# EAGLE library part ARDUINO_PRO_MINI (library Halley)
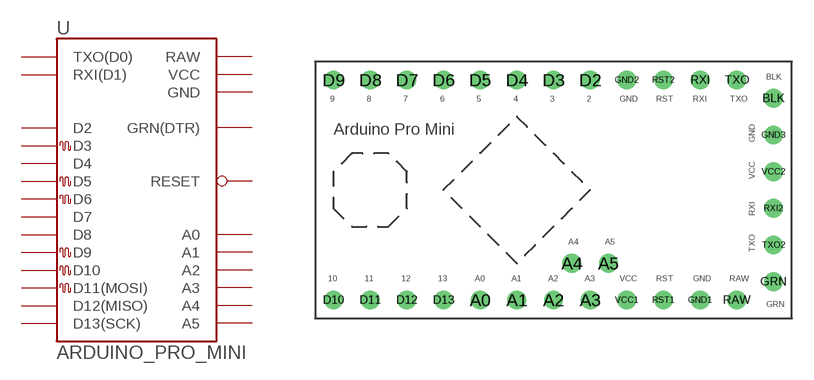
[diagram p1: symbol with the pads of ARDUINO_PRO_MINI; footprint ARDUINO_PRO_MINI]

Designator prefix -

## ARDUINO_PRO_MINI  [ARDUINO_PRO_MINI]
A0  A0
A1  A1
A2  A2
A3  A3
A4  A4
A5  A5
D2  D2
D3  D3
D4  D4
D5  D5
D6  D6
D7  D7
D8  D8
D9  D9
D10  D10
D11  D11(MOSI)
D12  D12(MISO)
D13  D13(SCK)
GND1  GND
GRN  GRN(DTR)
RAW  RAW
RST1  RESET
RXI  RXI(D1)
TXO  TXO(D0)
VCC1  VCC

## Footprint ARDUINO_PRO_MINI (pad centres in mm)
SparkFun Arduino Pro Mini outline
drill 0.8 round: A0 -6.35,-7.62; A1 -3.81,-7.62; A2 -1.27,-7.62; A3 1.27,-7.62; A4 0,-5.08; A5 2.54,-5.08; BLK 13.97,6.35; D2 1.27,7.62; D3 -1.27,7.62; D4 -3.81,7.62; D5 -6.35,7.62; D6 -8.89,7.62; D7 -11.43,7.62; D8 -13.97,7.62; D9 -16.51,7.62; D10 -16.51,-7.62; D11 -13.97,-7.62; D12 -11.43,-7.62; D13 -8.89,-7.62; GND1 8.89,-7.62; GND2 3.81,7.62; GND3 13.97,3.81; GRN 13.97,-6.35; RAW 11.43,-7.62; RST1 6.35,-7.62; RST2 6.35,7.62; RXI 8.89,7.62; RXI2 13.97,-1.27; TXO 11.43,7.62; TXO2 13.97,-3.81; VCC1 3.81,-7.62; VCC2 13.97,1.27